# Altium schematic symbol library Power and Battery Management.SchLib: 645 symbols (part 10 of 15)
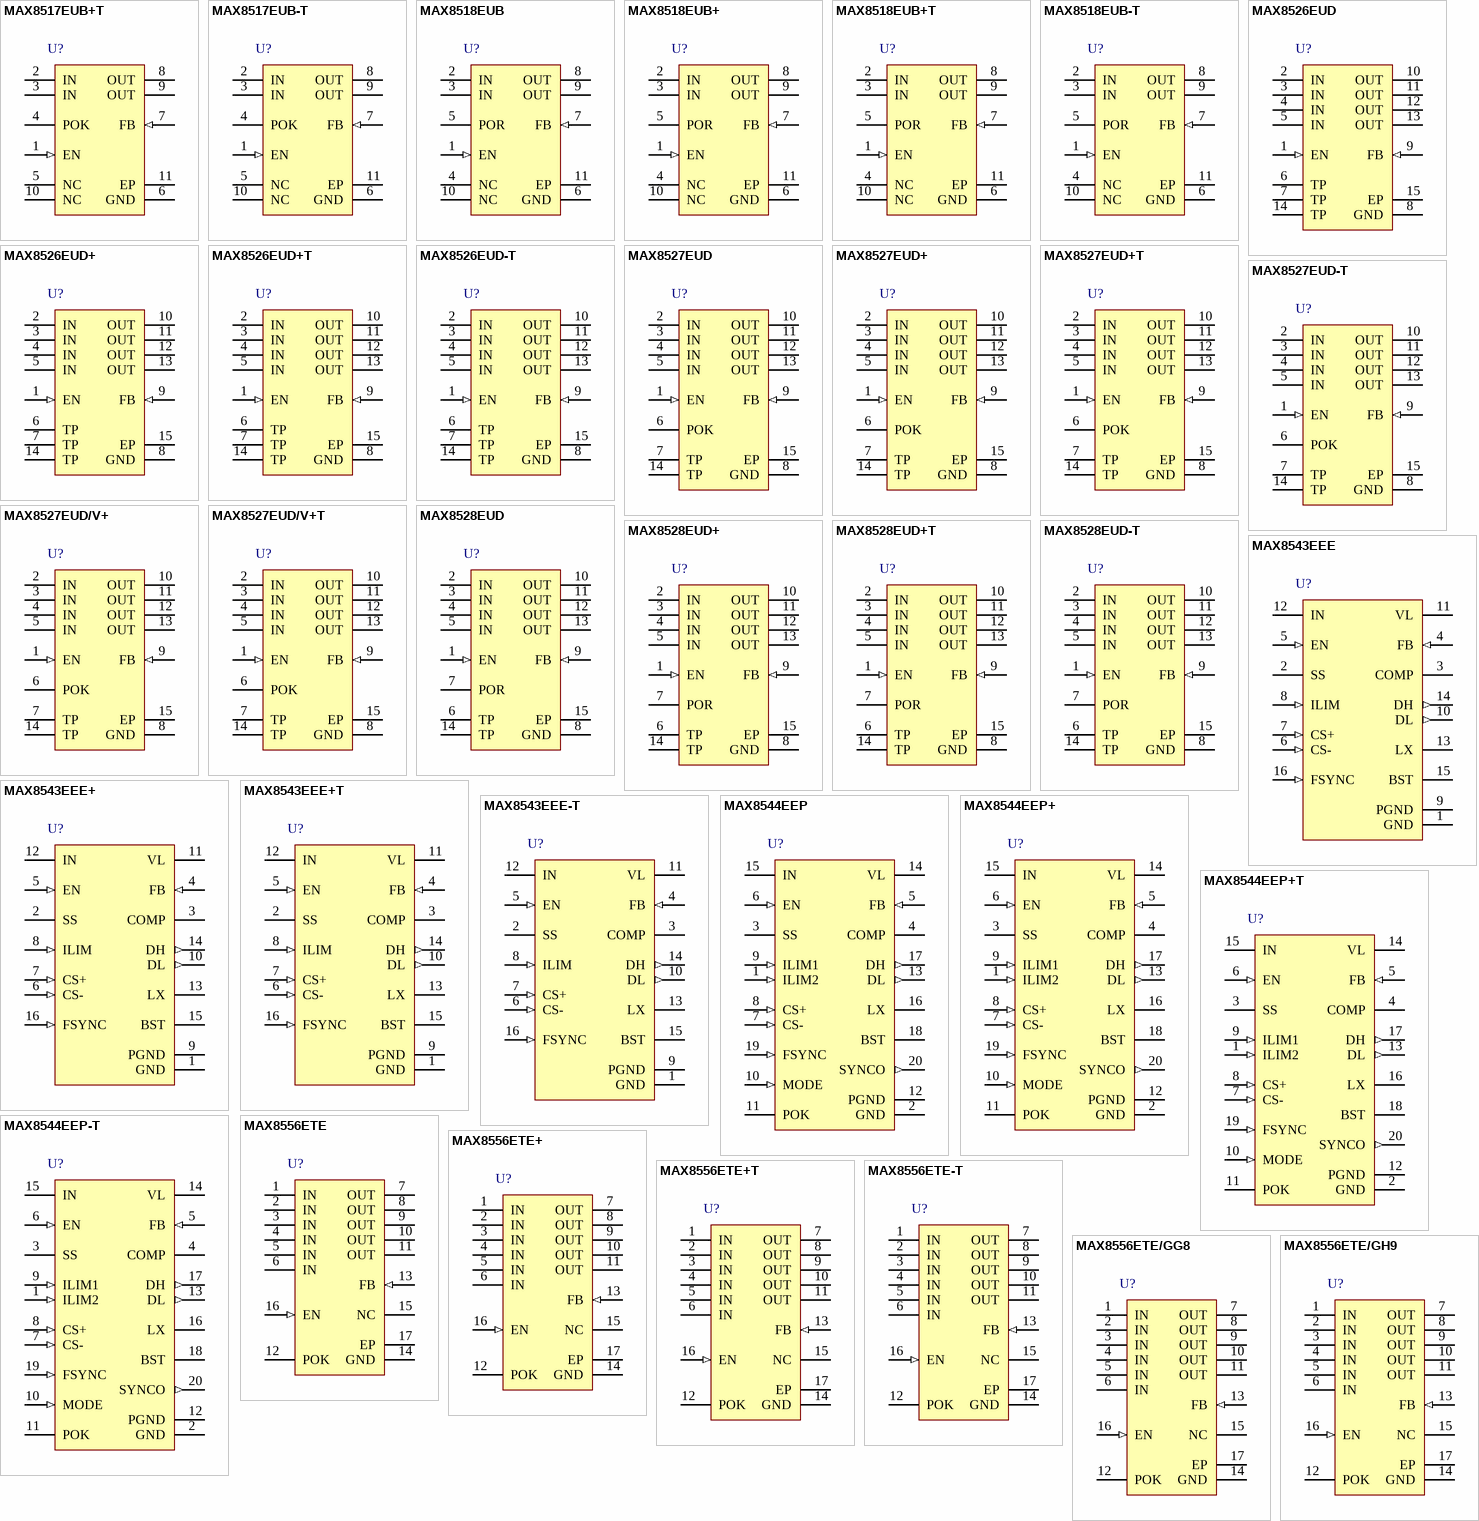
[diagram p28: symbols MAX8517EUB+T to MAX8556ETE/GH9]

## MAX8544EEP
designator U?
Step-Down Controllers with Prebias Startup, Lossless Sensing, Synchronization, and OVP, 20-Pin QSOP, -40°C to +85°C; DatasheetVersion: Rev 0, May-2004; PackageVersion: revJ, 2009; PackageReference: E20-1; PackageDescription: 20-Pin Quarter Small-Outline Package (QSOP) 0.150" Width, 0.025" Pitch; Code_JEDEC: MO-137-AD; ComponentLink1Description: Manufacturer URL; ComponentLink1URL: http://www.maxim-ic.com; ComponentLink2Description: Datasheet; ComponentLink2URL: http://datasheets.maxim-ic.com/en/ds/MAX8543-MAX8544.pdf; ComponentLink3Description: Package Specification; ComponentLink3URL: http://pdfserv.maxim-ic.com/package_dwgs/21-0055.PDF
footprint E20-1_N (SOP, 20-Leads, Body 8.6x3.9mm, Pitch 0.635mm, IPC Medium Density)
footprint E20-1_L (SOP, 20-Leads, Body 8.6x3.9mm, Pitch 0.635mm, IPC High Density)
footprint E20-1_M (SOP, 20-Leads, Body 8.6x3.9mm, Pitch 0.635mm, IPC Low Density)
pins: 1 ILIM2 (in), 2 GND (power), 3 SS, 4 COMP, 5 FB (in), 6 EN (in), 7 CS- (in), 8 CS+ (in), 9 ILIM1 (in), 10 MODE (in), 11 POK (oc), 12 PGND (power), 13 DL (out), 14 VL (power), 15 IN (power), 16 LX, 17 DH (out), 18 BST, 19 FSYNC (in), 20 SYNCO (out)

## MAX8544EEP+
designator U?
Step-Down Controllers with Prebias Startup, Lossless Sensing, Synchronization, and OVP, 20-Pin QSOP, -40°C to +85°C, Pb-Free; DatasheetVersion: Rev 0, May-2004; PackageVersion: revJ, 2009; PackageReference: E20+1; PackageDescription: 20-Pin Quarter Small-Outline Package (QSOP) 0.150" Width, 0.025" Pitch, Pb-Free; Code_JEDEC: MO-137-AD; ComponentLink1Description: Manufacturer URL; ComponentLink1URL: http://www.maxim-ic.com; ComponentLink2Description: Datasheet; ComponentLink2URL: http://datasheets.maxim-ic.com/en/ds/MAX8543-MAX8544.pdf; ComponentLink3Description: Package Specification; ComponentLink3URL: http://pdfserv.maxim-ic.com/package_dwgs/21-0055.PDF
footprint E20+1_N (SOP, 20-Leads, Body 8.6x3.9mm, Pitch 0.635mm, IPC Medium Density)
footprint E20+1_L (SOP, 20-Leads, Body 8.6x3.9mm, Pitch 0.635mm, IPC High Density)
footprint E20+1_M (SOP, 20-Leads, Body 8.6x3.9mm, Pitch 0.635mm, IPC Low Density)
pins: 1 ILIM2 (in), 2 GND (power), 3 SS, 4 COMP, 5 FB (in), 6 EN (in), 7 CS- (in), 8 CS+ (in), 9 ILIM1 (in), 10 MODE (in), 11 POK (oc), 12 PGND (power), 13 DL (out), 14 VL (power), 15 IN (power), 16 LX, 17 DH (out), 18 BST, 19 FSYNC (in), 20 SYNCO (out)

## MAX8544EEP+T
designator U?
Step-Down Controllers with Prebias Startup, Lossless Sensing, Synchronization, and OVP, 20-Pin QSOP, -40°C to +85°C, Pb-Free, Tape and Reel; DatasheetVersion: Rev 0, May-2004; PackageVersion: revJ, 2009; PackageReference: E20+1; PackageDescription: 20-Pin Quarter Small-Outline Package (QSOP) 0.150" Width, 0.025" Pitch, Pb-Free; Code_JEDEC: MO-137-AD; ComponentLink1Description: Manufacturer URL; ComponentLink1URL: http://www.maxim-ic.com; ComponentLink2Description: Datasheet; ComponentLink2URL: http://datasheets.maxim-ic.com/en/ds/MAX8543-MAX8544.pdf; ComponentLink3Description: Package Specification; ComponentLink3URL: http://pdfserv.maxim-ic.com/package_dwgs/21-0055.PDF
footprint E20+1_N (SOP, 20-Leads, Body 8.6x3.9mm, Pitch 0.635mm, IPC Medium Density)
footprint E20+1_L (SOP, 20-Leads, Body 8.6x3.9mm, Pitch 0.635mm, IPC High Density)
footprint E20+1_M (SOP, 20-Leads, Body 8.6x3.9mm, Pitch 0.635mm, IPC Low Density)
pins: 1 ILIM2 (in), 2 GND (power), 3 SS, 4 COMP, 5 FB (in), 6 EN (in), 7 CS- (in), 8 CS+ (in), 9 ILIM1 (in), 10 MODE (in), 11 POK (oc), 12 PGND (power), 13 DL (out), 14 VL (power), 15 IN (power), 16 LX, 17 DH (out), 18 BST, 19 FSYNC (in), 20 SYNCO (out)

## MAX8544EEP-T
designator U?
Step-Down Controllers with Prebias Startup, Lossless Sensing, Synchronization, and OVP, 20-Pin QSOP, -40°C to +85°C, Tape and Reel; DatasheetVersion: Rev 0, May-2004; PackageVersion: revJ, 2009; PackageReference: E20-1; PackageDescription: 20-Pin Quarter Small-Outline Package (QSOP) 0.150" Width, 0.025" Pitch; Code_JEDEC: MO-137-AD; ComponentLink1Description: Manufacturer URL; ComponentLink1URL: http://www.maxim-ic.com; ComponentLink2Description: Datasheet; ComponentLink2URL: http://datasheets.maxim-ic.com/en/ds/MAX8543-MAX8544.pdf; ComponentLink3Description: Package Specification; ComponentLink3URL: http://pdfserv.maxim-ic.com/package_dwgs/21-0055.PDF
footprint E20-1_N (SOP, 20-Leads, Body 8.6x3.9mm, Pitch 0.635mm, IPC Medium Density)
footprint E20-1_L (SOP, 20-Leads, Body 8.6x3.9mm, Pitch 0.635mm, IPC High Density)
footprint E20-1_M (SOP, 20-Leads, Body 8.6x3.9mm, Pitch 0.635mm, IPC Low Density)
pins: 1 ILIM2 (in), 2 GND (power), 3 SS, 4 COMP, 5 FB (in), 6 EN (in), 7 CS- (in), 8 CS+ (in), 9 ILIM1 (in), 10 MODE (in), 11 POK (oc), 12 PGND (power), 13 DL (out), 14 VL (power), 15 IN (power), 16 LX, 17 DH (out), 18 BST, 19 FSYNC (in), 20 SYNCO (out)

## MAX8556ETE
designator U?
4A Ultra-Low-Input-Voltage LDO Regulator, 16-Pin QFN-EP, -40°C to +85°C; DatasheetVersion: Rev 2, Aug-2009; PackageVersion: revO, 2011; PackageReference: T1655-3; PackageDescription: 16-Pin Thin Quad Flatpack, No Leads, 5 x 5 x 0.75 mm Body, 0.8 mm Pitch, TQFN; Code_JEDEC: MO-220WHHB; ComponentLink1Description: Manufacturer URL; ComponentLink1URL: http://www.maxim-ic.com; ComponentLink2Description: Datasheet; ComponentLink2URL: http://datasheets.maxim-ic.com/en/ds/MAX8556-MAX8557.pdf; ComponentLink3Description: Package Specification; ComponentLink3URL: http://pdfserv.maxim-ic.com/package_dwgs/21-0140.PDF
footprint T1655-3_N (QFN, 16-Leads, Body 5x5mm, Pitch 0.8mm, Thermal Pad 3.2x3.2mm, IPC Medium Density)
footprint T1655-3_L (QFN, 16-Leads, Body 5x5mm, Pitch 0.8mm, Thermal Pad 3.2x3.2mm, IPC High Density)
footprint T1655-3_M (QFN, 16-Leads, Body 5x5mm, Pitch 0.8mm, Thermal Pad 3.2x3.2mm, IPC Low Density)
pins: 1 IN (power), 2 IN (power), 3 IN (power), 4 IN (power), 5 IN (power), 6 IN (power), 7 OUT (power), 8 OUT (power), 9 OUT (power), 10 OUT (power), 11 OUT (power), 12 POK (oc), 13 FB (in), 14 GND (power), 15 NC, 16 EN (in), 17 EP (power)

## MAX8556ETE+
designator U?
4A Ultra-Low-Input-Voltage LDO Regulator, 16-Pin QFN-EP, -40°C to +85°C, Pb-Free; DatasheetVersion: Rev 2, Aug-2009; PackageVersion: revO, 2011; PackageReference: T1655+3; PackageDescription: 16-Pin Thin Quad Flatpack, No Leads, 5 x 5 x 0.75 mm Body, 0.8 mm Pitch, TQFN, Pb-Free; Code_JEDEC: MO-220WHHB; ComponentLink1Description: Manufacturer URL; ComponentLink1URL: http://www.maxim-ic.com; ComponentLink2Description: Datasheet; ComponentLink2URL: http://datasheets.maxim-ic.com/en/ds/MAX8556-MAX8557.pdf; ComponentLink3Description: Package Specification; ComponentLink3URL: http://pdfserv.maxim-ic.com/package_dwgs/21-0140.PDF
footprint T1655+3_N (QFN, 16-Leads, Body 5x5mm, Pitch 0.8mm, Thermal Pad 3.2x3.2mm, IPC Medium Density)
footprint T1655+3_L (QFN, 16-Leads, Body 5x5mm, Pitch 0.8mm, Thermal Pad 3.2x3.2mm, IPC High Density)
footprint T1655+3_M (QFN, 16-Leads, Body 5x5mm, Pitch 0.8mm, Thermal Pad 3.2x3.2mm, IPC Low Density)
pins: 1 IN (power), 2 IN (power), 3 IN (power), 4 IN (power), 5 IN (power), 6 IN (power), 7 OUT (power), 8 OUT (power), 9 OUT (power), 10 OUT (power), 11 OUT (power), 12 POK (oc), 13 FB (in), 14 GND (power), 15 NC, 16 EN (in), 17 EP (power)

## MAX8556ETE+T
designator U?
4A Ultra-Low-Input-Voltage LDO Regulator, 16-Pin QFN-EP, -40°C to +85°C, Pb-Free, Tape and Reel; DatasheetVersion: Rev 2, Aug-2009; PackageVersion: revO, 2011; PackageReference: T1655+3; PackageDescription: 16-Pin Thin Quad Flatpack, No Leads, 5 x 5 x 0.75 mm Body, 0.8 mm Pitch, TQFN, Pb-Free; Code_JEDEC: MO-220WHHB; ComponentLink1Description: Manufacturer URL; ComponentLink1URL: http://www.maxim-ic.com; ComponentLink2Description: Datasheet; ComponentLink2URL: http://datasheets.maxim-ic.com/en/ds/MAX8556-MAX8557.pdf; ComponentLink3Description: Package Specification; ComponentLink3URL: http://pdfserv.maxim-ic.com/package_dwgs/21-0140.PDF
footprint T1655+3_N (QFN, 16-Leads, Body 5x5mm, Pitch 0.8mm, Thermal Pad 3.2x3.2mm, IPC Medium Density)
footprint T1655+3_L (QFN, 16-Leads, Body 5x5mm, Pitch 0.8mm, Thermal Pad 3.2x3.2mm, IPC High Density)
footprint T1655+3_M (QFN, 16-Leads, Body 5x5mm, Pitch 0.8mm, Thermal Pad 3.2x3.2mm, IPC Low Density)
pins: 1 IN (power), 2 IN (power), 3 IN (power), 4 IN (power), 5 IN (power), 6 IN (power), 7 OUT (power), 8 OUT (power), 9 OUT (power), 10 OUT (power), 11 OUT (power), 12 POK (oc), 13 FB (in), 14 GND (power), 15 NC, 16 EN (in), 17 EP (power)

## MAX8556ETE-T
designator U?
4A Ultra-Low-Input-Voltage LDO Regulator, 16-Pin QFN-EP, -40°C to +85°C, Tape and Reel; DatasheetVersion: Rev 2, Aug-2009; PackageVersion: revO, 2011; PackageReference: T1655-3; PackageDescription: 16-Pin Thin Quad Flatpack, No Leads, 5 x 5 x 0.75 mm Body, 0.8 mm Pitch, TQFN; Code_JEDEC: MO-220WHHB; ComponentLink1Description: Manufacturer URL; ComponentLink1URL: http://www.maxim-ic.com; ComponentLink2Description: Datasheet; ComponentLink2URL: http://datasheets.maxim-ic.com/en/ds/MAX8556-MAX8557.pdf; ComponentLink3Description: Package Specification; ComponentLink3URL: http://pdfserv.maxim-ic.com/package_dwgs/21-0140.PDF
footprint T1655-3_N (QFN, 16-Leads, Body 5x5mm, Pitch 0.8mm, Thermal Pad 3.2x3.2mm, IPC Medium Density)
footprint T1655-3_L (QFN, 16-Leads, Body 5x5mm, Pitch 0.8mm, Thermal Pad 3.2x3.2mm, IPC High Density)
footprint T1655-3_M (QFN, 16-Leads, Body 5x5mm, Pitch 0.8mm, Thermal Pad 3.2x3.2mm, IPC Low Density)
pins: 1 IN (power), 2 IN (power), 3 IN (power), 4 IN (power), 5 IN (power), 6 IN (power), 7 OUT (power), 8 OUT (power), 9 OUT (power), 10 OUT (power), 11 OUT (power), 12 POK (oc), 13 FB (in), 14 GND (power), 15 NC, 16 EN (in), 17 EP (power)

## MAX8556ETE/GG8
designator U?
4A Ultra-Low-Input-Voltage LDO Regulator, 16-Pin QFN-EP, -40°C to +85°C; DatasheetVersion: Rev 2, Aug-2009; PackageVersion: revO, 2011; PackageReference: T1655-3; PackageDescription: 16-Pin Thin Quad Flatpack, No Leads, 5 x 5 x 0.75 mm Body, 0.8 mm Pitch, TQFN; Code_JEDEC: MO-220WHHB; ComponentLink1Description: Manufacturer URL; ComponentLink1URL: http://www.maxim-ic.com; ComponentLink2Description: Datasheet; ComponentLink2URL: http://datasheets.maxim-ic.com/en/ds/MAX8556-MAX8557.pdf; ComponentLink3Description: Package Specification; ComponentLink3URL: http://pdfserv.maxim-ic.com/package_dwgs/21-0140.PDF
footprint T1655-3_N (QFN, 16-Leads, Body 5x5mm, Pitch 0.8mm, Thermal Pad 3.2x3.2mm, IPC Medium Density)
footprint T1655-3_L (QFN, 16-Leads, Body 5x5mm, Pitch 0.8mm, Thermal Pad 3.2x3.2mm, IPC High Density)
footprint T1655-3_M (QFN, 16-Leads, Body 5x5mm, Pitch 0.8mm, Thermal Pad 3.2x3.2mm, IPC Low Density)
pins: 1 IN (power), 2 IN (power), 3 IN (power), 4 IN (power), 5 IN (power), 6 IN (power), 7 OUT (power), 8 OUT (power), 9 OUT (power), 10 OUT (power), 11 OUT (power), 12 POK (oc), 13 FB (in), 14 GND (power), 15 NC, 16 EN (in), 17 EP (power)

## MAX8556ETE/GH9
designator U?
4A Ultra-Low-Input-Voltage LDO Regulator, 16-Pin QFN-EP, -40°C to +85°C; DatasheetVersion: Rev 2, Aug-2009; PackageVersion: revO, 2011; PackageReference: T1655-3; PackageDescription: 16-Pin Thin Quad Flatpack, No Leads, 5 x 5 x 0.75 mm Body, 0.8 mm Pitch, TQFN; Code_JEDEC: MO-220WHHB; ComponentLink1Description: Manufacturer URL; ComponentLink1URL: http://www.maxim-ic.com; ComponentLink2Description: Datasheet; ComponentLink2URL: http://datasheets.maxim-ic.com/en/ds/MAX8556-MAX8557.pdf; ComponentLink3Description: Package Specification; ComponentLink3URL: http://pdfserv.maxim-ic.com/package_dwgs/21-0140.PDF
footprint T1655-3_N (QFN, 16-Leads, Body 5x5mm, Pitch 0.8mm, Thermal Pad 3.2x3.2mm, IPC Medium Density)
footprint T1655-3_L (QFN, 16-Leads, Body 5x5mm, Pitch 0.8mm, Thermal Pad 3.2x3.2mm, IPC High Density)
footprint T1655-3_M (QFN, 16-Leads, Body 5x5mm, Pitch 0.8mm, Thermal Pad 3.2x3.2mm, IPC Low Density)
pins: 1 IN (power), 2 IN (power), 3 IN (power), 4 IN (power), 5 IN (power), 6 IN (power), 7 OUT (power), 8 OUT (power), 9 OUT (power), 10 OUT (power), 11 OUT (power), 12 POK (oc), 13 FB (in), 14 GND (power), 15 NC, 16 EN (in), 17 EP (power)

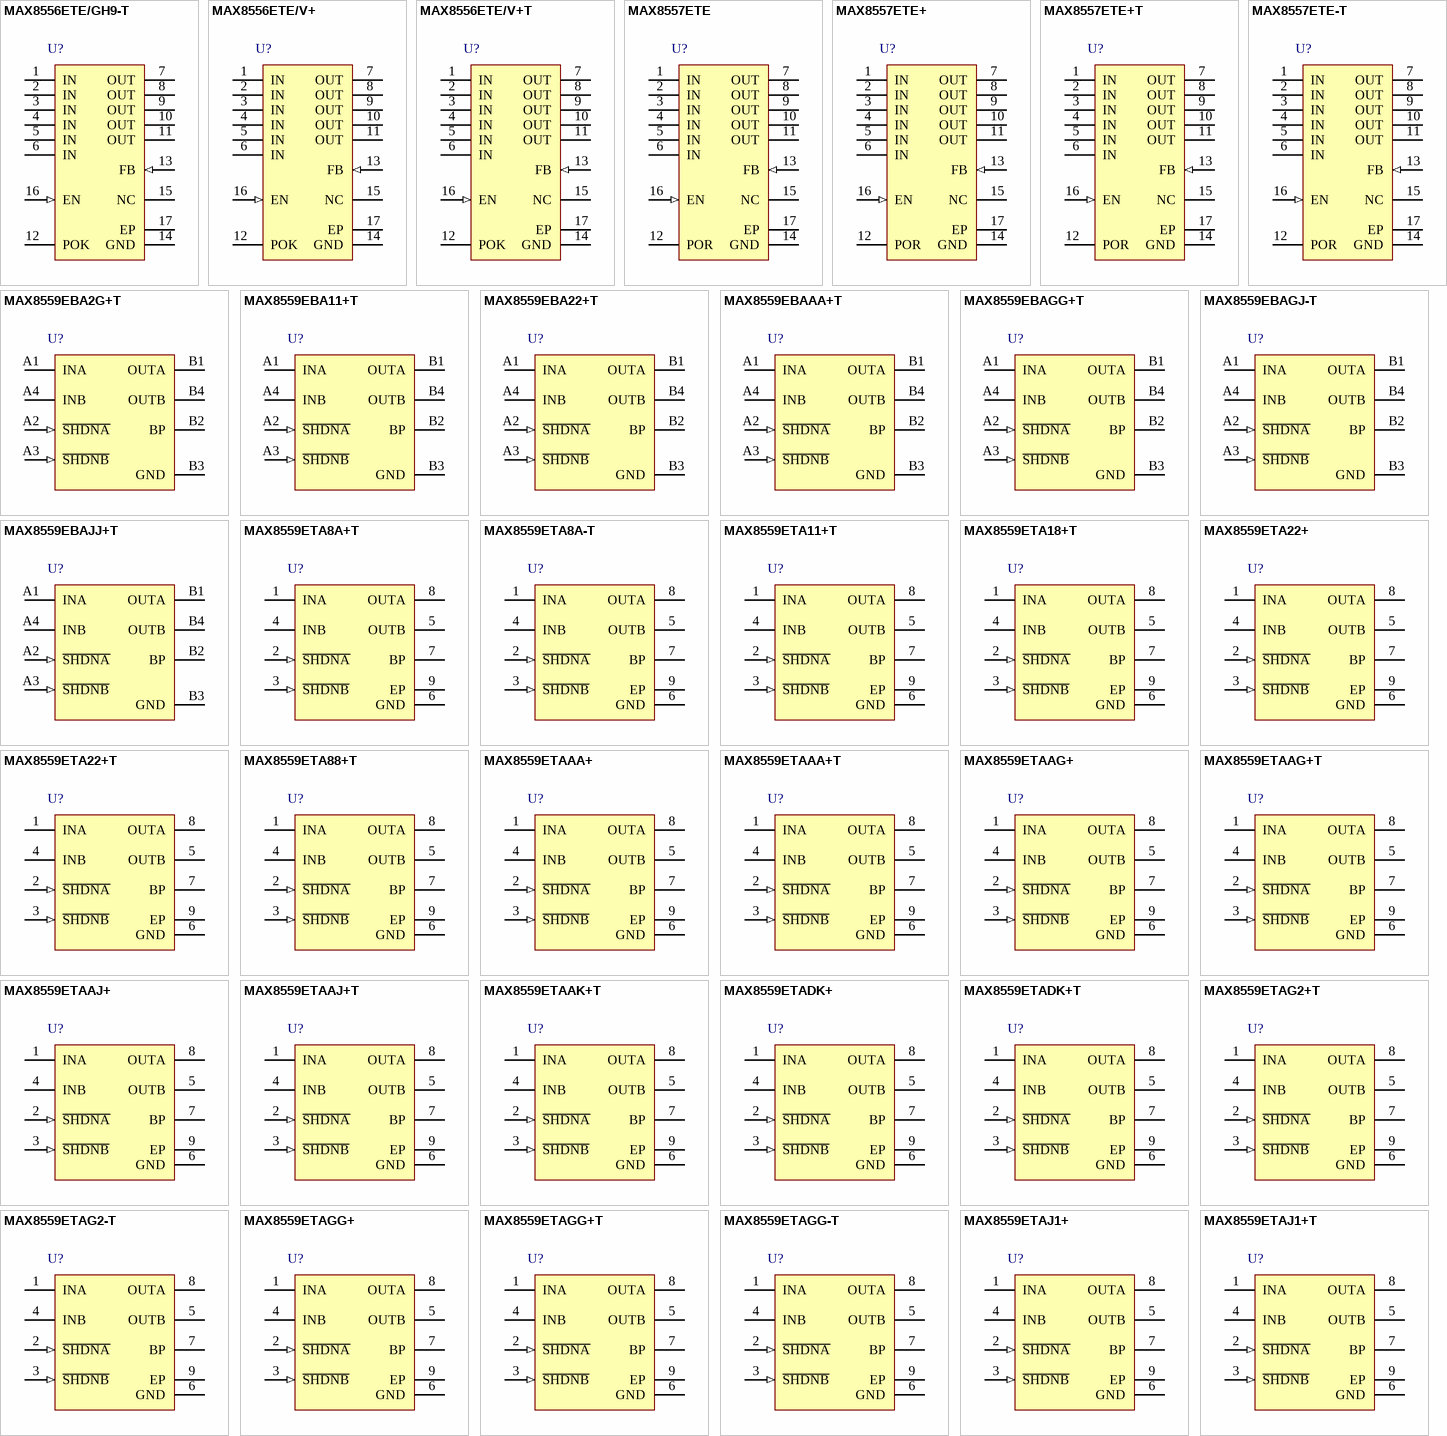
[diagram p12: symbols MAX8556ETE/GH9-T to MAX8559ETAJ1+T]

## MAX8556ETE/GH9-T
designator U?
4A Ultra-Low-Input-Voltage LDO Regulator, 16-Pin QFN-EP, -40°C to +85°C, Tape and Reel; DatasheetVersion: Rev 2, Aug-2009; PackageVersion: revO, 2011; PackageReference: T1655-3; PackageDescription: 16-Pin Thin Quad Flatpack, No Leads, 5 x 5 x 0.75 mm Body, 0.8 mm Pitch, TQFN; Code_JEDEC: MO-220WHHB; ComponentLink1Description: Manufacturer URL; ComponentLink1URL: http://www.maxim-ic.com; ComponentLink2Description: Datasheet; ComponentLink2URL: http://datasheets.maxim-ic.com/en/ds/MAX8556-MAX8557.pdf; ComponentLink3Description: Package Specification; ComponentLink3URL: http://pdfserv.maxim-ic.com/package_dwgs/21-0140.PDF
footprint T1655-3_N (QFN, 16-Leads, Body 5x5mm, Pitch 0.8mm, Thermal Pad 3.2x3.2mm, IPC Medium Density)
footprint T1655-3_L (QFN, 16-Leads, Body 5x5mm, Pitch 0.8mm, Thermal Pad 3.2x3.2mm, IPC High Density)
footprint T1655-3_M (QFN, 16-Leads, Body 5x5mm, Pitch 0.8mm, Thermal Pad 3.2x3.2mm, IPC Low Density)
pins: 1 IN (power), 2 IN (power), 3 IN (power), 4 IN (power), 5 IN (power), 6 IN (power), 7 OUT (power), 8 OUT (power), 9 OUT (power), 10 OUT (power), 11 OUT (power), 12 POK (oc), 13 FB (in), 14 GND (power), 15 NC, 16 EN (in), 17 EP (power)

## MAX8556ETE/V+
designator U?
4A Ultra-Low-Input-Voltage LDO Regulator, Automotive Qualified, 16-Pin QFN-EP, -40°C to +85°C, Pb-Free; DatasheetVersion: Rev 2, Aug-2009; PackageVersion: revO, 2011; PackageReference: T1655+3; PackageDescription: 16-Pin Thin Quad Flatpack, No Leads, 5 x 5 x 0.75 mm Body, 0.8 mm Pitch, TQFN, Pb-Free; Code_JEDEC: MO-220WHHB; ComponentLink1Description: Manufacturer URL; ComponentLink1URL: http://www.maxim-ic.com; ComponentLink2Description: Datasheet; ComponentLink2URL: http://datasheets.maxim-ic.com/en/ds/MAX8556-MAX8557.pdf; ComponentLink3Description: Package Specification; ComponentLink3URL: http://pdfserv.maxim-ic.com/package_dwgs/21-0140.PDF
footprint T1655+3_N (QFN, 16-Leads, Body 5x5mm, Pitch 0.8mm, Thermal Pad 3.2x3.2mm, IPC Medium Density)
footprint T1655+3_L (QFN, 16-Leads, Body 5x5mm, Pitch 0.8mm, Thermal Pad 3.2x3.2mm, IPC High Density)
footprint T1655+3_M (QFN, 16-Leads, Body 5x5mm, Pitch 0.8mm, Thermal Pad 3.2x3.2mm, IPC Low Density)
pins: 1 IN (power), 2 IN (power), 3 IN (power), 4 IN (power), 5 IN (power), 6 IN (power), 7 OUT (power), 8 OUT (power), 9 OUT (power), 10 OUT (power), 11 OUT (power), 12 POK (oc), 13 FB (in), 14 GND (power), 15 NC, 16 EN (in), 17 EP (power)

## MAX8556ETE/V+T
designator U?
4A Ultra-Low-Input-Voltage LDO Regulator, Automotive Qualified, 16-Pin QFN-EP, -40°C to +85°C, Pb-Free, Tape and Reel; DatasheetVersion: Rev 2, Aug-2009; PackageVersion: revO, 2011; PackageReference: T1655+3; PackageDescription: 16-Pin Thin Quad Flatpack, No Leads, 5 x 5 x 0.75 mm Body, 0.8 mm Pitch, TQFN, Pb-Free; Code_JEDEC: MO-220WHHB; ComponentLink1Description: Manufacturer URL; ComponentLink1URL: http://www.maxim-ic.com; ComponentLink2Description: Datasheet; ComponentLink2URL: http://datasheets.maxim-ic.com/en/ds/MAX8556-MAX8557.pdf; ComponentLink3Description: Package Specification; ComponentLink3URL: http://pdfserv.maxim-ic.com/package_dwgs/21-0140.PDF
footprint T1655+3_N (QFN, 16-Leads, Body 5x5mm, Pitch 0.8mm, Thermal Pad 3.2x3.2mm, IPC Medium Density)
footprint T1655+3_L (QFN, 16-Leads, Body 5x5mm, Pitch 0.8mm, Thermal Pad 3.2x3.2mm, IPC High Density)
footprint T1655+3_M (QFN, 16-Leads, Body 5x5mm, Pitch 0.8mm, Thermal Pad 3.2x3.2mm, IPC Low Density)
pins: 1 IN (power), 2 IN (power), 3 IN (power), 4 IN (power), 5 IN (power), 6 IN (power), 7 OUT (power), 8 OUT (power), 9 OUT (power), 10 OUT (power), 11 OUT (power), 12 POK (oc), 13 FB (in), 14 GND (power), 15 NC, 16 EN (in), 17 EP (power)

## MAX8557ETE
designator U?
4A Ultra-Low-Input-Voltage LDO Regulator, 16-Pin QFN-EP, -40°C to +85°C; DatasheetVersion: Rev 2, Aug-2009; PackageVersion: revO, 2011; PackageReference: T1655-3; PackageDescription: 16-Pin Thin Quad Flatpack, No Leads, 5 x 5 x 0.75 mm Body, 0.8 mm Pitch, TQFN; Code_JEDEC: MO-220WHHB; ComponentLink1Description: Manufacturer URL; ComponentLink1URL: http://www.maxim-ic.com; ComponentLink2Description: Datasheet; ComponentLink2URL: http://datasheets.maxim-ic.com/en/ds/MAX8556-MAX8557.pdf; ComponentLink3Description: Package Specification; ComponentLink3URL: http://pdfserv.maxim-ic.com/package_dwgs/21-0140.PDF
footprint T1655-3_N (QFN, 16-Leads, Body 5x5mm, Pitch 0.8mm, Thermal Pad 3.2x3.2mm, IPC Medium Density)
footprint T1655-3_L (QFN, 16-Leads, Body 5x5mm, Pitch 0.8mm, Thermal Pad 3.2x3.2mm, IPC High Density)
footprint T1655-3_M (QFN, 16-Leads, Body 5x5mm, Pitch 0.8mm, Thermal Pad 3.2x3.2mm, IPC Low Density)
pins: 1 IN (power), 2 IN (power), 3 IN (power), 4 IN (power), 5 IN (power), 6 IN (power), 7 OUT (power), 8 OUT (power), 9 OUT (power), 10 OUT (power), 11 OUT (power), 12 POR (oc), 13 FB (in), 14 GND (power), 15 NC, 16 EN (in), 17 EP (power)

## MAX8557ETE+
designator U?
4A Ultra-Low-Input-Voltage LDO Regulator, 16-Pin QFN-EP, -40°C to +85°C, Pb-Free; DatasheetVersion: Rev 2, Aug-2009; PackageVersion: revO, 2011; PackageReference: T1655+3; PackageDescription: 16-Pin Thin Quad Flatpack, No Leads, 5 x 5 x 0.75 mm Body, 0.8 mm Pitch, TQFN, Pb-Free; Code_JEDEC: MO-220WHHB; ComponentLink1Description: Manufacturer URL; ComponentLink1URL: http://www.maxim-ic.com; ComponentLink2Description: Datasheet; ComponentLink2URL: http://datasheets.maxim-ic.com/en/ds/MAX8556-MAX8557.pdf; ComponentLink3Description: Package Specification; ComponentLink3URL: http://pdfserv.maxim-ic.com/package_dwgs/21-0140.PDF
footprint T1655+3_N (QFN, 16-Leads, Body 5x5mm, Pitch 0.8mm, Thermal Pad 3.2x3.2mm, IPC Medium Density)
footprint T1655+3_L (QFN, 16-Leads, Body 5x5mm, Pitch 0.8mm, Thermal Pad 3.2x3.2mm, IPC High Density)
footprint T1655+3_M (QFN, 16-Leads, Body 5x5mm, Pitch 0.8mm, Thermal Pad 3.2x3.2mm, IPC Low Density)
pins: 1 IN (power), 2 IN (power), 3 IN (power), 4 IN (power), 5 IN (power), 6 IN (power), 7 OUT (power), 8 OUT (power), 9 OUT (power), 10 OUT (power), 11 OUT (power), 12 POR (oc), 13 FB (in), 14 GND (power), 15 NC, 16 EN (in), 17 EP (power)

## MAX8557ETE+T
designator U?
4A Ultra-Low-Input-Voltage LDO Regulator, 16-Pin QFN-EP, -40°C to +85°C, Pb-Free, Tape and Reel; DatasheetVersion: Rev 2, Aug-2009; PackageVersion: revO, 2011; PackageReference: T1655+3; PackageDescription: 16-Pin Thin Quad Flatpack, No Leads, 5 x 5 x 0.75 mm Body, 0.8 mm Pitch, TQFN, Pb-Free; Code_JEDEC: MO-220WHHB; ComponentLink1Description: Manufacturer URL; ComponentLink1URL: http://www.maxim-ic.com; ComponentLink2Description: Datasheet; ComponentLink2URL: http://datasheets.maxim-ic.com/en/ds/MAX8556-MAX8557.pdf; ComponentLink3Description: Package Specification; ComponentLink3URL: http://pdfserv.maxim-ic.com/package_dwgs/21-0140.PDF
footprint T1655+3_N (QFN, 16-Leads, Body 5x5mm, Pitch 0.8mm, Thermal Pad 3.2x3.2mm, IPC Medium Density)
footprint T1655+3_L (QFN, 16-Leads, Body 5x5mm, Pitch 0.8mm, Thermal Pad 3.2x3.2mm, IPC High Density)
footprint T1655+3_M (QFN, 16-Leads, Body 5x5mm, Pitch 0.8mm, Thermal Pad 3.2x3.2mm, IPC Low Density)
pins: 1 IN (power), 2 IN (power), 3 IN (power), 4 IN (power), 5 IN (power), 6 IN (power), 7 OUT (power), 8 OUT (power), 9 OUT (power), 10 OUT (power), 11 OUT (power), 12 POR (oc), 13 FB (in), 14 GND (power), 15 NC, 16 EN (in), 17 EP (power)

## MAX8557ETE-T
designator U?
4A Ultra-Low-Input-Voltage LDO Regulator, 16-Pin QFN-EP, -40°C to +85°C, Tape and Reel; DatasheetVersion: Rev 2, Aug-2009; PackageVersion: revO, 2011; PackageReference: T1655-3; PackageDescription: 16-Pin Thin Quad Flatpack, No Leads, 5 x 5 x 0.75 mm Body, 0.8 mm Pitch, TQFN; Code_JEDEC: MO-220WHHB; ComponentLink1Description: Manufacturer URL; ComponentLink1URL: http://www.maxim-ic.com; ComponentLink2Description: Datasheet; ComponentLink2URL: http://datasheets.maxim-ic.com/en/ds/MAX8556-MAX8557.pdf; ComponentLink3Description: Package Specification; ComponentLink3URL: http://pdfserv.maxim-ic.com/package_dwgs/21-0140.PDF
footprint T1655-3_N (QFN, 16-Leads, Body 5x5mm, Pitch 0.8mm, Thermal Pad 3.2x3.2mm, IPC Medium Density)
footprint T1655-3_L (QFN, 16-Leads, Body 5x5mm, Pitch 0.8mm, Thermal Pad 3.2x3.2mm, IPC High Density)
footprint T1655-3_M (QFN, 16-Leads, Body 5x5mm, Pitch 0.8mm, Thermal Pad 3.2x3.2mm, IPC Low Density)
pins: 1 IN (power), 2 IN (power), 3 IN (power), 4 IN (power), 5 IN (power), 6 IN (power), 7 OUT (power), 8 OUT (power), 9 OUT (power), 10 OUT (power), 11 OUT (power), 12 POR (oc), 13 FB (in), 14 GND (power), 15 NC, 16 EN (in), 17 EP (power)

## MAX8559EBA2G+T
designator U?
Dual, 300mA, Low-Noise Linear Regulator with Independent Shutdown, 8-Pin UCSP, -40°C to +85°C, Pb-Free, Tape and Reel; DatasheetVersion: Rev 2, Aug-2005; PackageVersion: revB, 2009; PackageReference: B8+1; PackageDescription: 8-Ball Ultra Chip-Scale Package (UCSP) 4x2 Array, 0.5 mm Pitch, Pb-Free; ComponentLink1Description: Manufacturer URL; ComponentLink1URL: http://www.maxim-ic.com; ComponentLink2Description: Datasheet; ComponentLink2URL: http://datasheets.maxim-ic.com/en/ds/MAX8559.pdf; ComponentLink3Description: Package Specification; ComponentLink3URL: http://pdfserv.maxim-ic.com/package_dwgs/21-0156.PDF
footprint B8+1 (BGA, 8-Leads, Body 1.1x2.1mm, Pitch 0.5mm)
pins: A1 INA (power), A2 ~{SHDNA} (in), A3 ~{SHDNB} (in), A4 INB (power), B1 OUTA (power), B2 BP, B3 GND (power), B4 OUTB (power)

## MAX8559EBA11+T
designator U?
Dual, 300mA, Low-Noise Linear Regulator with Independent Shutdown, 8-Pin UCSP, -40°C to +85°C, Pb-Free, Tape and Reel; DatasheetVersion: Rev 2, Aug-2005; PackageVersion: revB, 2009; PackageReference: B8+1; PackageDescription: 8-Ball Ultra Chip-Scale Package (UCSP) 4x2 Array, 0.5 mm Pitch, Pb-Free; ComponentLink1Description: Manufacturer URL; ComponentLink1URL: http://www.maxim-ic.com; ComponentLink2Description: Datasheet; ComponentLink2URL: http://datasheets.maxim-ic.com/en/ds/MAX8559.pdf; ComponentLink3Description: Package Specification; ComponentLink3URL: http://pdfserv.maxim-ic.com/package_dwgs/21-0156.PDF
footprint B8+1 (BGA, 8-Leads, Body 1.1x2.1mm, Pitch 0.5mm)
pins: A1 INA (power), A2 ~{SHDNA} (in), A3 ~{SHDNB} (in), A4 INB (power), B1 OUTA (power), B2 BP, B3 GND (power), B4 OUTB (power)

## MAX8559EBA22+T
designator U?
Dual, 300mA, Low-Noise Linear Regulator with Independent Shutdown, 8-Pin UCSP, -40°C to +85°C, Pb-Free, Tape and Reel; DatasheetVersion: Rev 2, Aug-2005; PackageVersion: revB, 2009; PackageReference: B8+1; PackageDescription: 8-Ball Ultra Chip-Scale Package (UCSP) 4x2 Array, 0.5 mm Pitch, Pb-Free; ComponentLink1Description: Manufacturer URL; ComponentLink1URL: http://www.maxim-ic.com; ComponentLink2Description: Datasheet; ComponentLink2URL: http://datasheets.maxim-ic.com/en/ds/MAX8559.pdf; ComponentLink3Description: Package Specification; ComponentLink3URL: http://pdfserv.maxim-ic.com/package_dwgs/21-0156.PDF
footprint B8+1 (BGA, 8-Leads, Body 1.1x2.1mm, Pitch 0.5mm)
pins: A1 INA (power), A2 ~{SHDNA} (in), A3 ~{SHDNB} (in), A4 INB (power), B1 OUTA (power), B2 BP, B3 GND (power), B4 OUTB (power)

## MAX8559EBAAA+T
designator U?
Dual, 300mA, Low-Noise Linear Regulator with Independent Shutdown, 8-Pin UCSP, -40°C to +85°C, Pb-Free, Tape and Reel; DatasheetVersion: Rev 2, Aug-2005; PackageVersion: revB, 2009; PackageReference: B8+1; PackageDescription: 8-Ball Ultra Chip-Scale Package (UCSP) 4x2 Array, 0.5 mm Pitch, Pb-Free; ComponentLink1Description: Manufacturer URL; ComponentLink1URL: http://www.maxim-ic.com; ComponentLink2Description: Datasheet; ComponentLink2URL: http://datasheets.maxim-ic.com/en/ds/MAX8559.pdf; ComponentLink3Description: Package Specification; ComponentLink3URL: http://pdfserv.maxim-ic.com/package_dwgs/21-0156.PDF
footprint B8+1 (BGA, 8-Leads, Body 1.1x2.1mm, Pitch 0.5mm)
pins: A1 INA (power), A2 ~{SHDNA} (in), A3 ~{SHDNB} (in), A4 INB (power), B1 OUTA (power), B2 BP, B3 GND (power), B4 OUTB (power)

## MAX8559EBAGG+T
designator U?
Dual, 300mA, Low-Noise Linear Regulator with Independent Shutdown, 8-Pin UCSP, -40°C to +85°C, Pb-Free, Tape and Reel; DatasheetVersion: Rev 2, Aug-2005; PackageVersion: revB, 2009; PackageReference: B8+1; PackageDescription: 8-Ball Ultra Chip-Scale Package (UCSP) 4x2 Array, 0.5 mm Pitch, Pb-Free; ComponentLink1Description: Manufacturer URL; ComponentLink1URL: http://www.maxim-ic.com; ComponentLink2Description: Datasheet; ComponentLink2URL: http://datasheets.maxim-ic.com/en/ds/MAX8559.pdf; ComponentLink3Description: Package Specification; ComponentLink3URL: http://pdfserv.maxim-ic.com/package_dwgs/21-0156.PDF
footprint B8+1 (BGA, 8-Leads, Body 1.1x2.1mm, Pitch 0.5mm)
pins: A1 INA (power), A2 ~{SHDNA} (in), A3 ~{SHDNB} (in), A4 INB (power), B1 OUTA (power), B2 BP, B3 GND (power), B4 OUTB (power)

## MAX8559EBAGJ-T
designator U?
Dual, 300mA, Low-Noise Linear Regulator with Independent Shutdown, 8-Pin UCSP, -40°C to +85°C, Tape and Reel; DatasheetVersion: Rev 2, Aug-2005; PackageVersion: revB, 2009; PackageReference: B8-1; PackageDescription: 8-Ball Ultra Chip-Scale Package (UCSP) 4x2 Array, 0.5 mm Pitch; ComponentLink1Description: Manufacturer URL; ComponentLink1URL: http://www.maxim-ic.com; ComponentLink2Description: Datasheet; ComponentLink2URL: http://datasheets.maxim-ic.com/en/ds/MAX8559.pdf; ComponentLink3Description: Package Specification; ComponentLink3URL: http://pdfserv.maxim-ic.com/package_dwgs/21-0156.PDF
footprint B8-1 (BGA, 8-Leads, Body 1.1x2.1mm, Pitch 0.5mm)
pins: A1 INA (power), A2 ~{SHDNA} (in), A3 ~{SHDNB} (in), A4 INB (power), B1 OUTA (power), B2 BP, B3 GND (power), B4 OUTB (power)

## MAX8559EBAJJ+T
designator U?
Dual, 300mA, Low-Noise Linear Regulator with Independent Shutdown, 8-Pin UCSP, -40°C to +85°C, Pb-Free, Tape and Reel; DatasheetVersion: Rev 2, Aug-2005; PackageVersion: revB, 2009; PackageReference: B8+1; PackageDescription: 8-Ball Ultra Chip-Scale Package (UCSP) 4x2 Array, 0.5 mm Pitch, Pb-Free; ComponentLink1Description: Manufacturer URL; ComponentLink1URL: http://www.maxim-ic.com; ComponentLink2Description: Datasheet; ComponentLink2URL: http://datasheets.maxim-ic.com/en/ds/MAX8559.pdf; ComponentLink3Description: Package Specification; ComponentLink3URL: http://pdfserv.maxim-ic.com/package_dwgs/21-0156.PDF
footprint B8+1 (BGA, 8-Leads, Body 1.1x2.1mm, Pitch 0.5mm)
pins: A1 INA (power), A2 ~{SHDNA} (in), A3 ~{SHDNB} (in), A4 INB (power), B1 OUTA (power), B2 BP, B3 GND (power), B4 OUTB (power)

## MAX8559ETA8A+T
designator U?
Dual, 300mA, Low-Noise Linear Regulator with Independent Shutdown, 8-Pin TDFN-EP, -40°C to +85°C, Pb-Free, Tape and Reel; DatasheetVersion: Rev 2, Aug-2005; PackageVersion: revJ, 2009; PackageReference: T833+2; PackageDescription: 8-Pin Plastic Very Very Thin Dual Flatpack No Leads, Exposed Pad, 3 x 3 x 0.8 mm Body, TDFN-EP, Pb-Free; Code_JEDEC: MO-229-WEEC; ComponentLink1Description: Manufacturer URL; ComponentLink1URL: http://www.maxim-ic.com; ComponentLink2Description: Datasheet; ComponentLink2URL: http://datasheets.maxim-ic.com/en/ds/MAX8559.pdf; ComponentLink3Description: Package Specification; ComponentLink3URL: http://pdfserv.maxim-ic.com/package_dwgs/21-0137.PDF
footprint T833+2 (SON, 8-Leads, Body 3x3 mm, Pitch 0.65mm, Thermal Pad 2.35x1.58mm, Maxim Recommended)
pins: 1 INA (power), 2 ~{SHDNA} (in), 3 ~{SHDNB} (in), 4 INB (power), 5 OUTB (power), 6 GND (power), 7 BP, 8 OUTA (power), 9 EP (power)

## MAX8559ETA8A-T
designator U?
Dual, 300mA, Low-Noise Linear Regulator with Independent Shutdown, 8-Pin TDFN-EP, -40°C to +85°C, Tape and Reel; DatasheetVersion: Rev 2, Aug-2005; PackageVersion: revJ, 2009; PackageReference: T833-2; PackageDescription: 8-Pin Plastic Very Very Thin Dual Flatpack No Leads, Exposed Pad, 3 x 3 x 0.8 mm Body, TDFN-EP; Code_JEDEC: MO-229-WEEC; ComponentLink1Description: Manufacturer URL; ComponentLink1URL: http://www.maxim-ic.com; ComponentLink2Description: Datasheet; ComponentLink2URL: http://datasheets.maxim-ic.com/en/ds/MAX8559.pdf; ComponentLink3Description: Package Specification; ComponentLink3URL: http://pdfserv.maxim-ic.com/package_dwgs/21-0137.PDF
footprint T833-2 (SON, 8-Leads, Body 3x3 mm, Pitch 0.65mm, Thermal Pad 2.35x1.58mm, Maxim Recommended)
pins: 1 INA (power), 2 ~{SHDNA} (in), 3 ~{SHDNB} (in), 4 INB (power), 5 OUTB (power), 6 GND (power), 7 BP, 8 OUTA (power), 9 EP (power)

## MAX8559ETA11+T
designator U?
Dual, 300mA, Low-Noise Linear Regulator with Independent Shutdown, 8-Pin TDFN-EP, -40°C to +85°C, Pb-Free, Tape and Reel; DatasheetVersion: Rev 2, Aug-2005; PackageVersion: revJ, 2009; PackageReference: T833+2; PackageDescription: 8-Pin Plastic Very Very Thin Dual Flatpack No Leads, Exposed Pad, 3 x 3 x 0.8 mm Body, TDFN-EP, Pb-Free; Code_JEDEC: MO-229-WEEC; ComponentLink1Description: Manufacturer URL; ComponentLink1URL: http://www.maxim-ic.com; ComponentLink2Description: Datasheet; ComponentLink2URL: http://datasheets.maxim-ic.com/en/ds/MAX8559.pdf; ComponentLink3Description: Package Specification; ComponentLink3URL: http://pdfserv.maxim-ic.com/package_dwgs/21-0137.PDF
footprint T833+2 (SON, 8-Leads, Body 3x3 mm, Pitch 0.65mm, Thermal Pad 2.35x1.58mm, Maxim Recommended)
pins: 1 INA (power), 2 ~{SHDNA} (in), 3 ~{SHDNB} (in), 4 INB (power), 5 OUTB (power), 6 GND (power), 7 BP, 8 OUTA (power), 9 EP (power)

## MAX8559ETA18+T
designator U?
Dual, 300mA, Low-Noise Linear Regulator with Independent Shutdown, 8-Pin TDFN-EP, -40°C to +85°C, Pb-Free, Tape and Reel; DatasheetVersion: Rev 2, Aug-2005; PackageVersion: revJ, 2009; PackageReference: T833+2; PackageDescription: 8-Pin Plastic Very Very Thin Dual Flatpack No Leads, Exposed Pad, 3 x 3 x 0.8 mm Body, TDFN-EP, Pb-Free; Code_JEDEC: MO-229-WEEC; ComponentLink1Description: Manufacturer URL; ComponentLink1URL: http://www.maxim-ic.com; ComponentLink2Description: Datasheet; ComponentLink2URL: http://datasheets.maxim-ic.com/en/ds/MAX8559.pdf; ComponentLink3Description: Package Specification; ComponentLink3URL: http://pdfserv.maxim-ic.com/package_dwgs/21-0137.PDF
footprint T833+2 (SON, 8-Leads, Body 3x3 mm, Pitch 0.65mm, Thermal Pad 2.35x1.58mm, Maxim Recommended)
pins: 1 INA (power), 2 ~{SHDNA} (in), 3 ~{SHDNB} (in), 4 INB (power), 5 OUTB (power), 6 GND (power), 7 BP, 8 OUTA (power), 9 EP (power)

## MAX8559ETA22+
designator U?
Dual, 300mA, Low-Noise Linear Regulator with Independent Shutdown, 8-Pin TDFN-EP, -40°C to +85°C, Pb-Free; DatasheetVersion: Rev 2, Aug-2005; PackageVersion: revJ, 2009; PackageReference: T833+2; PackageDescription: 8-Pin Plastic Very Very Thin Dual Flatpack No Leads, Exposed Pad, 3 x 3 x 0.8 mm Body, TDFN-EP, Pb-Free; Code_JEDEC: MO-229-WEEC; ComponentLink1Description: Manufacturer URL; ComponentLink1URL: http://www.maxim-ic.com; ComponentLink2Description: Datasheet; ComponentLink2URL: http://datasheets.maxim-ic.com/en/ds/MAX8559.pdf; ComponentLink3Description: Package Specification; ComponentLink3URL: http://pdfserv.maxim-ic.com/package_dwgs/21-0137.PDF
footprint T833+2 (SON, 8-Leads, Body 3x3 mm, Pitch 0.65mm, Thermal Pad 2.35x1.58mm, Maxim Recommended)
pins: 1 INA (power), 2 ~{SHDNA} (in), 3 ~{SHDNB} (in), 4 INB (power), 5 OUTB (power), 6 GND (power), 7 BP, 8 OUTA (power), 9 EP (power)

## MAX8559ETA22+T
designator U?
Dual, 300mA, Low-Noise Linear Regulator with Independent Shutdown, 8-Pin TDFN-EP, -40°C to +85°C, Pb-Free, Tape and Reel; DatasheetVersion: Rev 2, Aug-2005; PackageVersion: revJ, 2009; PackageReference: T833+2; PackageDescription: 8-Pin Plastic Very Very Thin Dual Flatpack No Leads, Exposed Pad, 3 x 3 x 0.8 mm Body, TDFN-EP, Pb-Free; Code_JEDEC: MO-229-WEEC; ComponentLink1Description: Manufacturer URL; ComponentLink1URL: http://www.maxim-ic.com; ComponentLink2Description: Datasheet; ComponentLink2URL: http://datasheets.maxim-ic.com/en/ds/MAX8559.pdf; ComponentLink3Description: Package Specification; ComponentLink3URL: http://pdfserv.maxim-ic.com/package_dwgs/21-0137.PDF
footprint T833+2 (SON, 8-Leads, Body 3x3 mm, Pitch 0.65mm, Thermal Pad 2.35x1.58mm, Maxim Recommended)
pins: 1 INA (power), 2 ~{SHDNA} (in), 3 ~{SHDNB} (in), 4 INB (power), 5 OUTB (power), 6 GND (power), 7 BP, 8 OUTA (power), 9 EP (power)

## MAX8559ETA88+T
designator U?
Dual, 300mA, Low-Noise Linear Regulator with Independent Shutdown, 8-Pin TDFN-EP, -40°C to +85°C, Pb-Free, Tape and Reel; DatasheetVersion: Rev 2, Aug-2005; PackageVersion: revJ, 2009; PackageReference: T833+2; PackageDescription: 8-Pin Plastic Very Very Thin Dual Flatpack No Leads, Exposed Pad, 3 x 3 x 0.8 mm Body, TDFN-EP, Pb-Free; Code_JEDEC: MO-229-WEEC; ComponentLink1Description: Manufacturer URL; ComponentLink1URL: http://www.maxim-ic.com; ComponentLink2Description: Datasheet; ComponentLink2URL: http://datasheets.maxim-ic.com/en/ds/MAX8559.pdf; ComponentLink3Description: Package Specification; ComponentLink3URL: http://pdfserv.maxim-ic.com/package_dwgs/21-0137.PDF
footprint T833+2 (SON, 8-Leads, Body 3x3 mm, Pitch 0.65mm, Thermal Pad 2.35x1.58mm, Maxim Recommended)
pins: 1 INA (power), 2 ~{SHDNA} (in), 3 ~{SHDNB} (in), 4 INB (power), 5 OUTB (power), 6 GND (power), 7 BP, 8 OUTA (power), 9 EP (power)

## MAX8559ETAAA+
designator U?
Dual, 300mA, Low-Noise Linear Regulator with Independent Shutdown, 8-Pin TDFN-EP, -40°C to +85°C, Pb-Free; DatasheetVersion: Rev 2, Aug-2005; PackageVersion: revJ, 2009; PackageReference: T833+2; PackageDescription: 8-Pin Plastic Very Very Thin Dual Flatpack No Leads, Exposed Pad, 3 x 3 x 0.8 mm Body, TDFN-EP, Pb-Free; Code_JEDEC: MO-229-WEEC; ComponentLink1Description: Manufacturer URL; ComponentLink1URL: http://www.maxim-ic.com; ComponentLink2Description: Datasheet; ComponentLink2URL: http://datasheets.maxim-ic.com/en/ds/MAX8559.pdf; ComponentLink3Description: Package Specification; ComponentLink3URL: http://pdfserv.maxim-ic.com/package_dwgs/21-0137.PDF
footprint T833+2 (SON, 8-Leads, Body 3x3 mm, Pitch 0.65mm, Thermal Pad 2.35x1.58mm, Maxim Recommended)
pins: 1 INA (power), 2 ~{SHDNA} (in), 3 ~{SHDNB} (in), 4 INB (power), 5 OUTB (power), 6 GND (power), 7 BP, 8 OUTA (power), 9 EP (power)

## MAX8559ETAAA+T
designator U?
Dual, 300mA, Low-Noise Linear Regulator with Independent Shutdown, 8-Pin TDFN-EP, -40°C to +85°C, Pb-Free, Tape and Reel; DatasheetVersion: Rev 2, Aug-2005; PackageVersion: revJ, 2009; PackageReference: T833+2; PackageDescription: 8-Pin Plastic Very Very Thin Dual Flatpack No Leads, Exposed Pad, 3 x 3 x 0.8 mm Body, TDFN-EP, Pb-Free; Code_JEDEC: MO-229-WEEC; ComponentLink1Description: Manufacturer URL; ComponentLink1URL: http://www.maxim-ic.com; ComponentLink2Description: Datasheet; ComponentLink2URL: http://datasheets.maxim-ic.com/en/ds/MAX8559.pdf; ComponentLink3Description: Package Specification; ComponentLink3URL: http://pdfserv.maxim-ic.com/package_dwgs/21-0137.PDF
footprint T833+2 (SON, 8-Leads, Body 3x3 mm, Pitch 0.65mm, Thermal Pad 2.35x1.58mm, Maxim Recommended)
pins: 1 INA (power), 2 ~{SHDNA} (in), 3 ~{SHDNB} (in), 4 INB (power), 5 OUTB (power), 6 GND (power), 7 BP, 8 OUTA (power), 9 EP (power)

## MAX8559ETAAG+
designator U?
Dual, 300mA, Low-Noise Linear Regulator with Independent Shutdown, 8-Pin TDFN-EP, -40°C to +85°C, Pb-Free; DatasheetVersion: Rev 2, Aug-2005; PackageVersion: revJ, 2009; PackageReference: T833+2; PackageDescription: 8-Pin Plastic Very Very Thin Dual Flatpack No Leads, Exposed Pad, 3 x 3 x 0.8 mm Body, TDFN-EP, Pb-Free; Code_JEDEC: MO-229-WEEC; ComponentLink1Description: Manufacturer URL; ComponentLink1URL: http://www.maxim-ic.com; ComponentLink2Description: Datasheet; ComponentLink2URL: http://datasheets.maxim-ic.com/en/ds/MAX8559.pdf; ComponentLink3Description: Package Specification; ComponentLink3URL: http://pdfserv.maxim-ic.com/package_dwgs/21-0137.PDF
footprint T833+2 (SON, 8-Leads, Body 3x3 mm, Pitch 0.65mm, Thermal Pad 2.35x1.58mm, Maxim Recommended)
pins: 1 INA (power), 2 ~{SHDNA} (in), 3 ~{SHDNB} (in), 4 INB (power), 5 OUTB (power), 6 GND (power), 7 BP, 8 OUTA (power), 9 EP (power)

## MAX8559ETAAG+T
designator U?
Dual, 300mA, Low-Noise Linear Regulator with Independent Shutdown, 8-Pin TDFN-EP, -40°C to +85°C, Pb-Free, Tape and Reel; DatasheetVersion: Rev 2, Aug-2005; PackageVersion: revJ, 2009; PackageReference: T833+2; PackageDescription: 8-Pin Plastic Very Very Thin Dual Flatpack No Leads, Exposed Pad, 3 x 3 x 0.8 mm Body, TDFN-EP, Pb-Free; Code_JEDEC: MO-229-WEEC; ComponentLink1Description: Manufacturer URL; ComponentLink1URL: http://www.maxim-ic.com; ComponentLink2Description: Datasheet; ComponentLink2URL: http://datasheets.maxim-ic.com/en/ds/MAX8559.pdf; ComponentLink3Description: Package Specification; ComponentLink3URL: http://pdfserv.maxim-ic.com/package_dwgs/21-0137.PDF
footprint T833+2 (SON, 8-Leads, Body 3x3 mm, Pitch 0.65mm, Thermal Pad 2.35x1.58mm, Maxim Recommended)
pins: 1 INA (power), 2 ~{SHDNA} (in), 3 ~{SHDNB} (in), 4 INB (power), 5 OUTB (power), 6 GND (power), 7 BP, 8 OUTA (power), 9 EP (power)

## MAX8559ETAAJ+
designator U?
Dual, 300mA, Low-Noise Linear Regulator with Independent Shutdown, 8-Pin TDFN-EP, -40°C to +85°C, Pb-Free; DatasheetVersion: Rev 2, Aug-2005; PackageVersion: revJ, 2009; PackageReference: T833+2; PackageDescription: 8-Pin Plastic Very Very Thin Dual Flatpack No Leads, Exposed Pad, 3 x 3 x 0.8 mm Body, TDFN-EP, Pb-Free; Code_JEDEC: MO-229-WEEC; ComponentLink1Description: Manufacturer URL; ComponentLink1URL: http://www.maxim-ic.com; ComponentLink2Description: Datasheet; ComponentLink2URL: http://datasheets.maxim-ic.com/en/ds/MAX8559.pdf; ComponentLink3Description: Package Specification; ComponentLink3URL: http://pdfserv.maxim-ic.com/package_dwgs/21-0137.PDF
footprint T833+2 (SON, 8-Leads, Body 3x3 mm, Pitch 0.65mm, Thermal Pad 2.35x1.58mm, Maxim Recommended)
pins: 1 INA (power), 2 ~{SHDNA} (in), 3 ~{SHDNB} (in), 4 INB (power), 5 OUTB (power), 6 GND (power), 7 BP, 8 OUTA (power), 9 EP (power)

## MAX8559ETAAJ+T
designator U?
Dual, 300mA, Low-Noise Linear Regulator with Independent Shutdown, 8-Pin TDFN-EP, -40°C to +85°C, Pb-Free, Tape and Reel; DatasheetVersion: Rev 2, Aug-2005; PackageVersion: revJ, 2009; PackageReference: T833+2; PackageDescription: 8-Pin Plastic Very Very Thin Dual Flatpack No Leads, Exposed Pad, 3 x 3 x 0.8 mm Body, TDFN-EP, Pb-Free; Code_JEDEC: MO-229-WEEC; ComponentLink1Description: Manufacturer URL; ComponentLink1URL: http://www.maxim-ic.com; ComponentLink2Description: Datasheet; ComponentLink2URL: http://datasheets.maxim-ic.com/en/ds/MAX8559.pdf; ComponentLink3Description: Package Specification; ComponentLink3URL: http://pdfserv.maxim-ic.com/package_dwgs/21-0137.PDF
footprint T833+2 (SON, 8-Leads, Body 3x3 mm, Pitch 0.65mm, Thermal Pad 2.35x1.58mm, Maxim Recommended)
pins: 1 INA (power), 2 ~{SHDNA} (in), 3 ~{SHDNB} (in), 4 INB (power), 5 OUTB (power), 6 GND (power), 7 BP, 8 OUTA (power), 9 EP (power)

## MAX8559ETAAK+T
designator U?
Dual, 300mA, Low-Noise Linear Regulator with Independent Shutdown, 8-Pin TDFN-EP, -40°C to +85°C, Pb-Free, Tape and Reel; DatasheetVersion: Rev 2, Aug-2005; PackageVersion: revJ, 2009; PackageReference: T833+2; PackageDescription: 8-Pin Plastic Very Very Thin Dual Flatpack No Leads, Exposed Pad, 3 x 3 x 0.8 mm Body, TDFN-EP, Pb-Free; Code_JEDEC: MO-229-WEEC; ComponentLink1Description: Manufacturer URL; ComponentLink1URL: http://www.maxim-ic.com; ComponentLink2Description: Datasheet; ComponentLink2URL: http://datasheets.maxim-ic.com/en/ds/MAX8559.pdf; ComponentLink3Description: Package Specification; ComponentLink3URL: http://pdfserv.maxim-ic.com/package_dwgs/21-0137.PDF
footprint T833+2 (SON, 8-Leads, Body 3x3 mm, Pitch 0.65mm, Thermal Pad 2.35x1.58mm, Maxim Recommended)
pins: 1 INA (power), 2 ~{SHDNA} (in), 3 ~{SHDNB} (in), 4 INB (power), 5 OUTB (power), 6 GND (power), 7 BP, 8 OUTA (power), 9 EP (power)

## MAX8559ETADK+
designator U?
Dual, 300mA, Low-Noise Linear Regulator with Independent Shutdown, 8-Pin TDFN-EP, -40°C to +85°C, Pb-Free; DatasheetVersion: Rev 2, Aug-2005; PackageVersion: revJ, 2009; PackageReference: T833+2; PackageDescription: 8-Pin Plastic Very Very Thin Dual Flatpack No Leads, Exposed Pad, 3 x 3 x 0.8 mm Body, TDFN-EP, Pb-Free; Code_JEDEC: MO-229-WEEC; ComponentLink1Description: Manufacturer URL; ComponentLink1URL: http://www.maxim-ic.com; ComponentLink2Description: Datasheet; ComponentLink2URL: http://datasheets.maxim-ic.com/en/ds/MAX8559.pdf; ComponentLink3Description: Package Specification; ComponentLink3URL: http://pdfserv.maxim-ic.com/package_dwgs/21-0137.PDF
footprint T833+2 (SON, 8-Leads, Body 3x3 mm, Pitch 0.65mm, Thermal Pad 2.35x1.58mm, Maxim Recommended)
pins: 1 INA (power), 2 ~{SHDNA} (in), 3 ~{SHDNB} (in), 4 INB (power), 5 OUTB (power), 6 GND (power), 7 BP, 8 OUTA (power), 9 EP (power)

## MAX8559ETADK+T
designator U?
Dual, 300mA, Low-Noise Linear Regulator with Independent Shutdown, 8-Pin TDFN-EP, -40°C to +85°C, Pb-Free, Tape and Reel; DatasheetVersion: Rev 2, Aug-2005; PackageVersion: revJ, 2009; PackageReference: T833+2; PackageDescription: 8-Pin Plastic Very Very Thin Dual Flatpack No Leads, Exposed Pad, 3 x 3 x 0.8 mm Body, TDFN-EP, Pb-Free; Code_JEDEC: MO-229-WEEC; ComponentLink1Description: Manufacturer URL; ComponentLink1URL: http://www.maxim-ic.com; ComponentLink2Description: Datasheet; ComponentLink2URL: http://datasheets.maxim-ic.com/en/ds/MAX8559.pdf; ComponentLink3Description: Package Specification; ComponentLink3URL: http://pdfserv.maxim-ic.com/package_dwgs/21-0137.PDF
footprint T833+2 (SON, 8-Leads, Body 3x3 mm, Pitch 0.65mm, Thermal Pad 2.35x1.58mm, Maxim Recommended)
pins: 1 INA (power), 2 ~{SHDNA} (in), 3 ~{SHDNB} (in), 4 INB (power), 5 OUTB (power), 6 GND (power), 7 BP, 8 OUTA (power), 9 EP (power)

## MAX8559ETAG2+T
designator U?
Dual, 300mA, Low-Noise Linear Regulator with Independent Shutdown, 8-Pin TDFN-EP, -40°C to +85°C, Pb-Free, Tape and Reel; DatasheetVersion: Rev 2, Aug-2005; PackageVersion: revJ, 2009; PackageReference: T833+2; PackageDescription: 8-Pin Plastic Very Very Thin Dual Flatpack No Leads, Exposed Pad, 3 x 3 x 0.8 mm Body, TDFN-EP, Pb-Free; Code_JEDEC: MO-229-WEEC; ComponentLink1Description: Manufacturer URL; ComponentLink1URL: http://www.maxim-ic.com; ComponentLink2Description: Datasheet; ComponentLink2URL: http://datasheets.maxim-ic.com/en/ds/MAX8559.pdf; ComponentLink3Description: Package Specification; ComponentLink3URL: http://pdfserv.maxim-ic.com/package_dwgs/21-0137.PDF
footprint T833+2 (SON, 8-Leads, Body 3x3 mm, Pitch 0.65mm, Thermal Pad 2.35x1.58mm, Maxim Recommended)
pins: 1 INA (power), 2 ~{SHDNA} (in), 3 ~{SHDNB} (in), 4 INB (power), 5 OUTB (power), 6 GND (power), 7 BP, 8 OUTA (power), 9 EP (power)

## MAX8559ETAG2-T
designator U?
Dual, 300mA, Low-Noise Linear Regulator with Independent Shutdown, 8-Pin TDFN-EP, -40°C to +85°C, Tape and Reel; DatasheetVersion: Rev 2, Aug-2005; PackageVersion: revJ, 2009; PackageReference: T833-2; PackageDescription: 8-Pin Plastic Very Very Thin Dual Flatpack No Leads, Exposed Pad, 3 x 3 x 0.8 mm Body, TDFN-EP; Code_JEDEC: MO-229-WEEC; ComponentLink1Description: Manufacturer URL; ComponentLink1URL: http://www.maxim-ic.com; ComponentLink2Description: Datasheet; ComponentLink2URL: http://datasheets.maxim-ic.com/en/ds/MAX8559.pdf; ComponentLink3Description: Package Specification; ComponentLink3URL: http://pdfserv.maxim-ic.com/package_dwgs/21-0137.PDF
footprint T833-2 (SON, 8-Leads, Body 3x3 mm, Pitch 0.65mm, Thermal Pad 2.35x1.58mm, Maxim Recommended)
pins: 1 INA (power), 2 ~{SHDNA} (in), 3 ~{SHDNB} (in), 4 INB (power), 5 OUTB (power), 6 GND (power), 7 BP, 8 OUTA (power), 9 EP (power)

## MAX8559ETAGG+
designator U?
Dual, 300mA, Low-Noise Linear Regulator with Independent Shutdown, 8-Pin TDFN-EP, -40°C to +85°C, Pb-Free; DatasheetVersion: Rev 2, Aug-2005; PackageVersion: revJ, 2009; PackageReference: T833+2; PackageDescription: 8-Pin Plastic Very Very Thin Dual Flatpack No Leads, Exposed Pad, 3 x 3 x 0.8 mm Body, TDFN-EP, Pb-Free; Code_JEDEC: MO-229-WEEC; ComponentLink1Description: Manufacturer URL; ComponentLink1URL: http://www.maxim-ic.com; ComponentLink2Description: Datasheet; ComponentLink2URL: http://datasheets.maxim-ic.com/en/ds/MAX8559.pdf; ComponentLink3Description: Package Specification; ComponentLink3URL: http://pdfserv.maxim-ic.com/package_dwgs/21-0137.PDF
footprint T833+2 (SON, 8-Leads, Body 3x3 mm, Pitch 0.65mm, Thermal Pad 2.35x1.58mm, Maxim Recommended)
pins: 1 INA (power), 2 ~{SHDNA} (in), 3 ~{SHDNB} (in), 4 INB (power), 5 OUTB (power), 6 GND (power), 7 BP, 8 OUTA (power), 9 EP (power)

## MAX8559ETAGG+T
designator U?
Dual, 300mA, Low-Noise Linear Regulator with Independent Shutdown, 8-Pin TDFN-EP, -40°C to +85°C, Pb-Free, Tape and Reel; DatasheetVersion: Rev 2, Aug-2005; PackageVersion: revJ, 2009; PackageReference: T833+2; PackageDescription: 8-Pin Plastic Very Very Thin Dual Flatpack No Leads, Exposed Pad, 3 x 3 x 0.8 mm Body, TDFN-EP, Pb-Free; Code_JEDEC: MO-229-WEEC; ComponentLink1Description: Manufacturer URL; ComponentLink1URL: http://www.maxim-ic.com; ComponentLink2Description: Datasheet; ComponentLink2URL: http://datasheets.maxim-ic.com/en/ds/MAX8559.pdf; ComponentLink3Description: Package Specification; ComponentLink3URL: http://pdfserv.maxim-ic.com/package_dwgs/21-0137.PDF
footprint T833+2 (SON, 8-Leads, Body 3x3 mm, Pitch 0.65mm, Thermal Pad 2.35x1.58mm, Maxim Recommended)
pins: 1 INA (power), 2 ~{SHDNA} (in), 3 ~{SHDNB} (in), 4 INB (power), 5 OUTB (power), 6 GND (power), 7 BP, 8 OUTA (power), 9 EP (power)

## MAX8559ETAGG-T
designator U?
Dual, 300mA, Low-Noise Linear Regulator with Independent Shutdown, 8-Pin TDFN-EP, -40°C to +85°C, Tape and Reel; DatasheetVersion: Rev 2, Aug-2005; PackageVersion: revJ, 2009; PackageReference: T833-2; PackageDescription: 8-Pin Plastic Very Very Thin Dual Flatpack No Leads, Exposed Pad, 3 x 3 x 0.8 mm Body, TDFN-EP; Code_JEDEC: MO-229-WEEC; ComponentLink1Description: Manufacturer URL; ComponentLink1URL: http://www.maxim-ic.com; ComponentLink2Description: Datasheet; ComponentLink2URL: http://datasheets.maxim-ic.com/en/ds/MAX8559.pdf; ComponentLink3Description: Package Specification; ComponentLink3URL: http://pdfserv.maxim-ic.com/package_dwgs/21-0137.PDF
footprint T833-2 (SON, 8-Leads, Body 3x3 mm, Pitch 0.65mm, Thermal Pad 2.35x1.58mm, Maxim Recommended)
pins: 1 INA (power), 2 ~{SHDNA} (in), 3 ~{SHDNB} (in), 4 INB (power), 5 OUTB (power), 6 GND (power), 7 BP, 8 OUTA (power), 9 EP (power)

## MAX8559ETAJ1+
designator U?
Dual, 300mA, Low-Noise Linear Regulator with Independent Shutdown, 8-Pin TDFN-EP, -40°C to +85°C, Pb-Free; DatasheetVersion: Rev 2, Aug-2005; PackageVersion: revJ, 2009; PackageReference: T833+2; PackageDescription: 8-Pin Plastic Very Very Thin Dual Flatpack No Leads, Exposed Pad, 3 x 3 x 0.8 mm Body, TDFN-EP, Pb-Free; Code_JEDEC: MO-229-WEEC; ComponentLink1Description: Manufacturer URL; ComponentLink1URL: http://www.maxim-ic.com; ComponentLink2Description: Datasheet; ComponentLink2URL: http://datasheets.maxim-ic.com/en/ds/MAX8559.pdf; ComponentLink3Description: Package Specification; ComponentLink3URL: http://pdfserv.maxim-ic.com/package_dwgs/21-0137.PDF
footprint T833+2 (SON, 8-Leads, Body 3x3 mm, Pitch 0.65mm, Thermal Pad 2.35x1.58mm, Maxim Recommended)
pins: 1 INA (power), 2 ~{SHDNA} (in), 3 ~{SHDNB} (in), 4 INB (power), 5 OUTB (power), 6 GND (power), 7 BP, 8 OUTA (power), 9 EP (power)

## MAX8559ETAJ1+T
designator U?
Dual, 300mA, Low-Noise Linear Regulator with Independent Shutdown, 8-Pin TDFN-EP, -40°C to +85°C, Pb-Free, Tape and Reel; DatasheetVersion: Rev 2, Aug-2005; PackageVersion: revJ, 2009; PackageReference: T833+2; PackageDescription: 8-Pin Plastic Very Very Thin Dual Flatpack No Leads, Exposed Pad, 3 x 3 x 0.8 mm Body, TDFN-EP, Pb-Free; Code_JEDEC: MO-229-WEEC; ComponentLink1Description: Manufacturer URL; ComponentLink1URL: http://www.maxim-ic.com; ComponentLink2Description: Datasheet; ComponentLink2URL: http://datasheets.maxim-ic.com/en/ds/MAX8559.pdf; ComponentLink3Description: Package Specification; ComponentLink3URL: http://pdfserv.maxim-ic.com/package_dwgs/21-0137.PDF
footprint T833+2 (SON, 8-Leads, Body 3x3 mm, Pitch 0.65mm, Thermal Pad 2.35x1.58mm, Maxim Recommended)
pins: 1 INA (power), 2 ~{SHDNA} (in), 3 ~{SHDNB} (in), 4 INB (power), 5 OUTB (power), 6 GND (power), 7 BP, 8 OUTA (power), 9 EP (power)

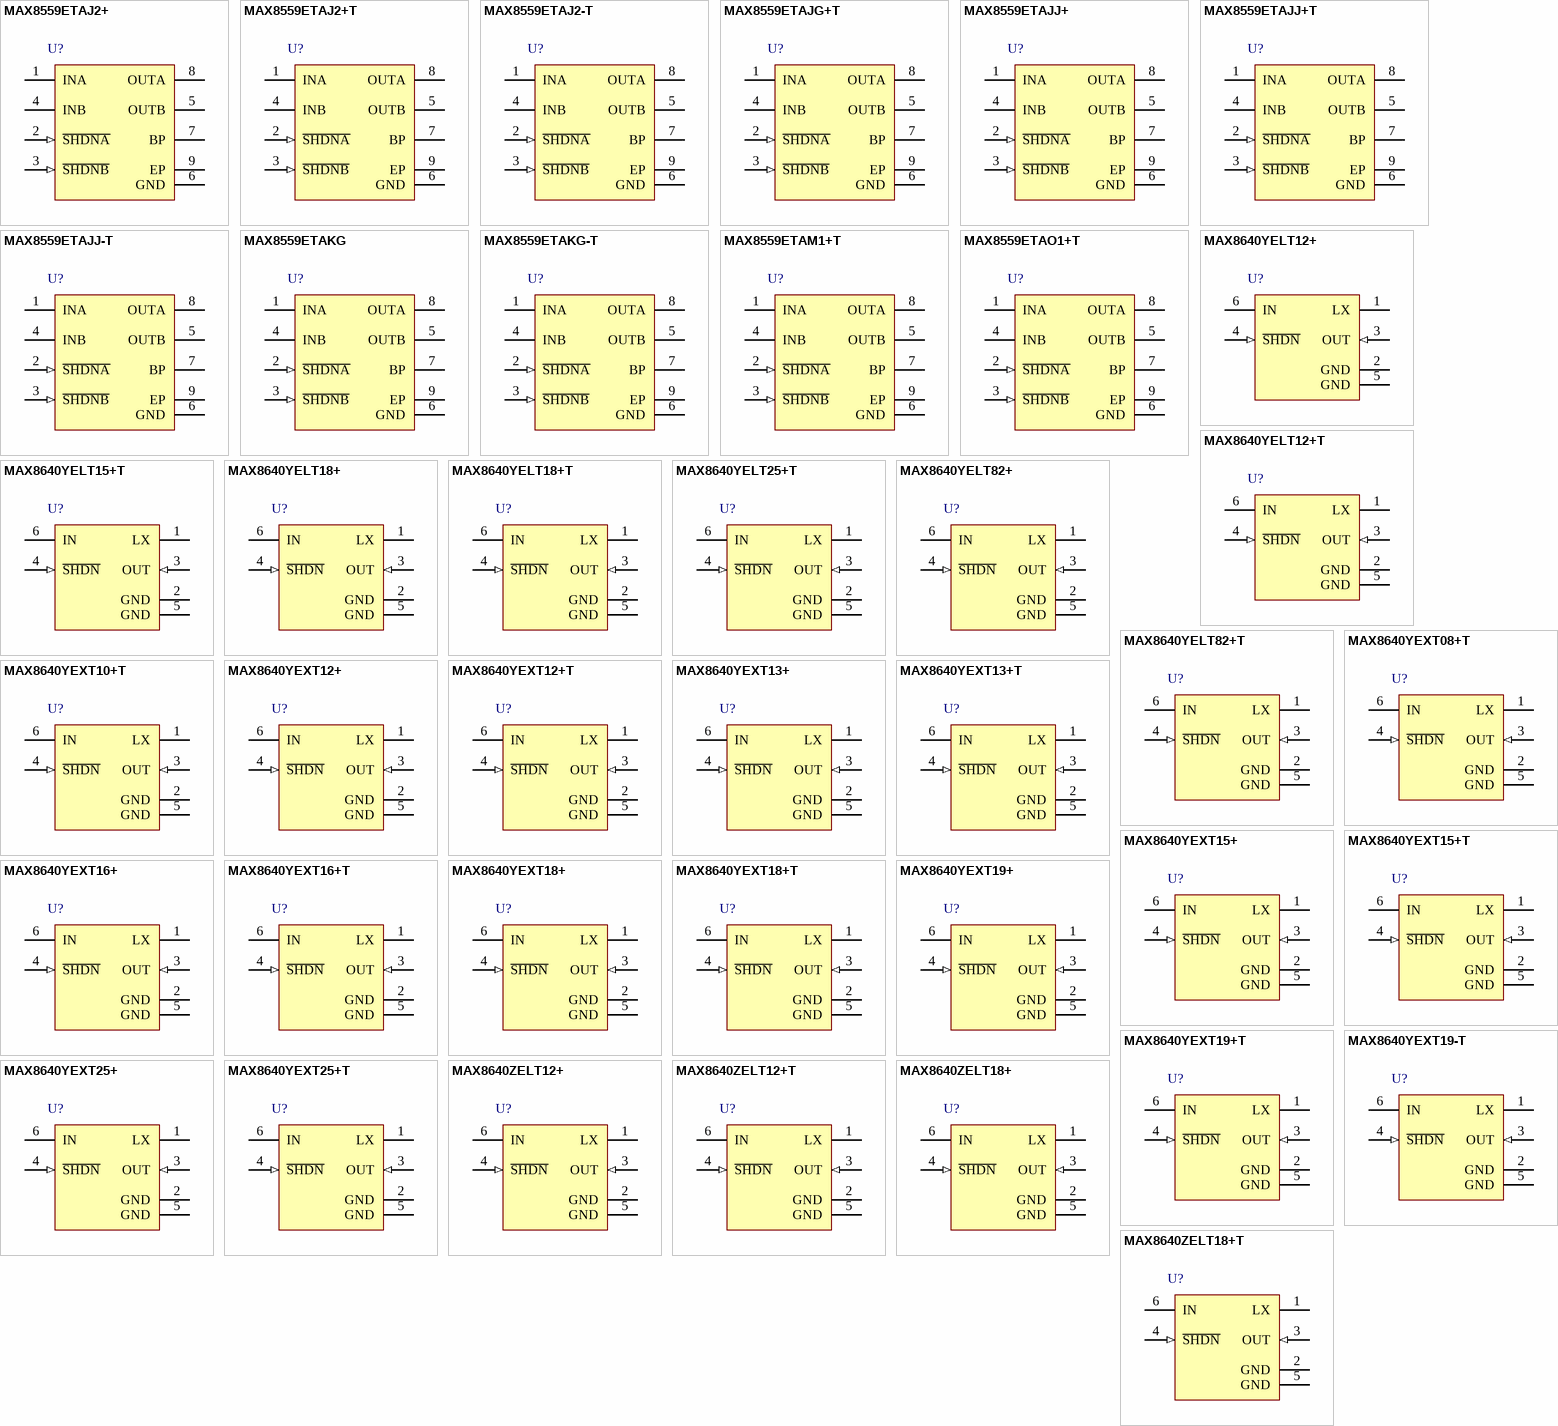
[diagram p13: symbols MAX8559ETAJ2+ to MAX8640ZELT18+T]

## MAX8559ETAJ2+
designator U?
Dual, 300mA, Low-Noise Linear Regulator with Independent Shutdown, 8-Pin TDFN-EP, -40°C to +85°C, Pb-Free; DatasheetVersion: Rev 2, Aug-2005; PackageVersion: revJ, 2009; PackageReference: T833+2; PackageDescription: 8-Pin Plastic Very Very Thin Dual Flatpack No Leads, Exposed Pad, 3 x 3 x 0.8 mm Body, TDFN-EP, Pb-Free; Code_JEDEC: MO-229-WEEC; ComponentLink1Description: Manufacturer URL; ComponentLink1URL: http://www.maxim-ic.com; ComponentLink2Description: Datasheet; ComponentLink2URL: http://datasheets.maxim-ic.com/en/ds/MAX8559.pdf; ComponentLink3Description: Package Specification; ComponentLink3URL: http://pdfserv.maxim-ic.com/package_dwgs/21-0137.PDF
footprint T833+2 (SON, 8-Leads, Body 3x3 mm, Pitch 0.65mm, Thermal Pad 2.35x1.58mm, Maxim Recommended)
pins: 1 INA (power), 2 ~{SHDNA} (in), 3 ~{SHDNB} (in), 4 INB (power), 5 OUTB (power), 6 GND (power), 7 BP, 8 OUTA (power), 9 EP (power)